# Altium schematic symbol library Interface.SchLib: 40 symbols
Pins are listed as number, name and electrical type; pins without a type are passive.

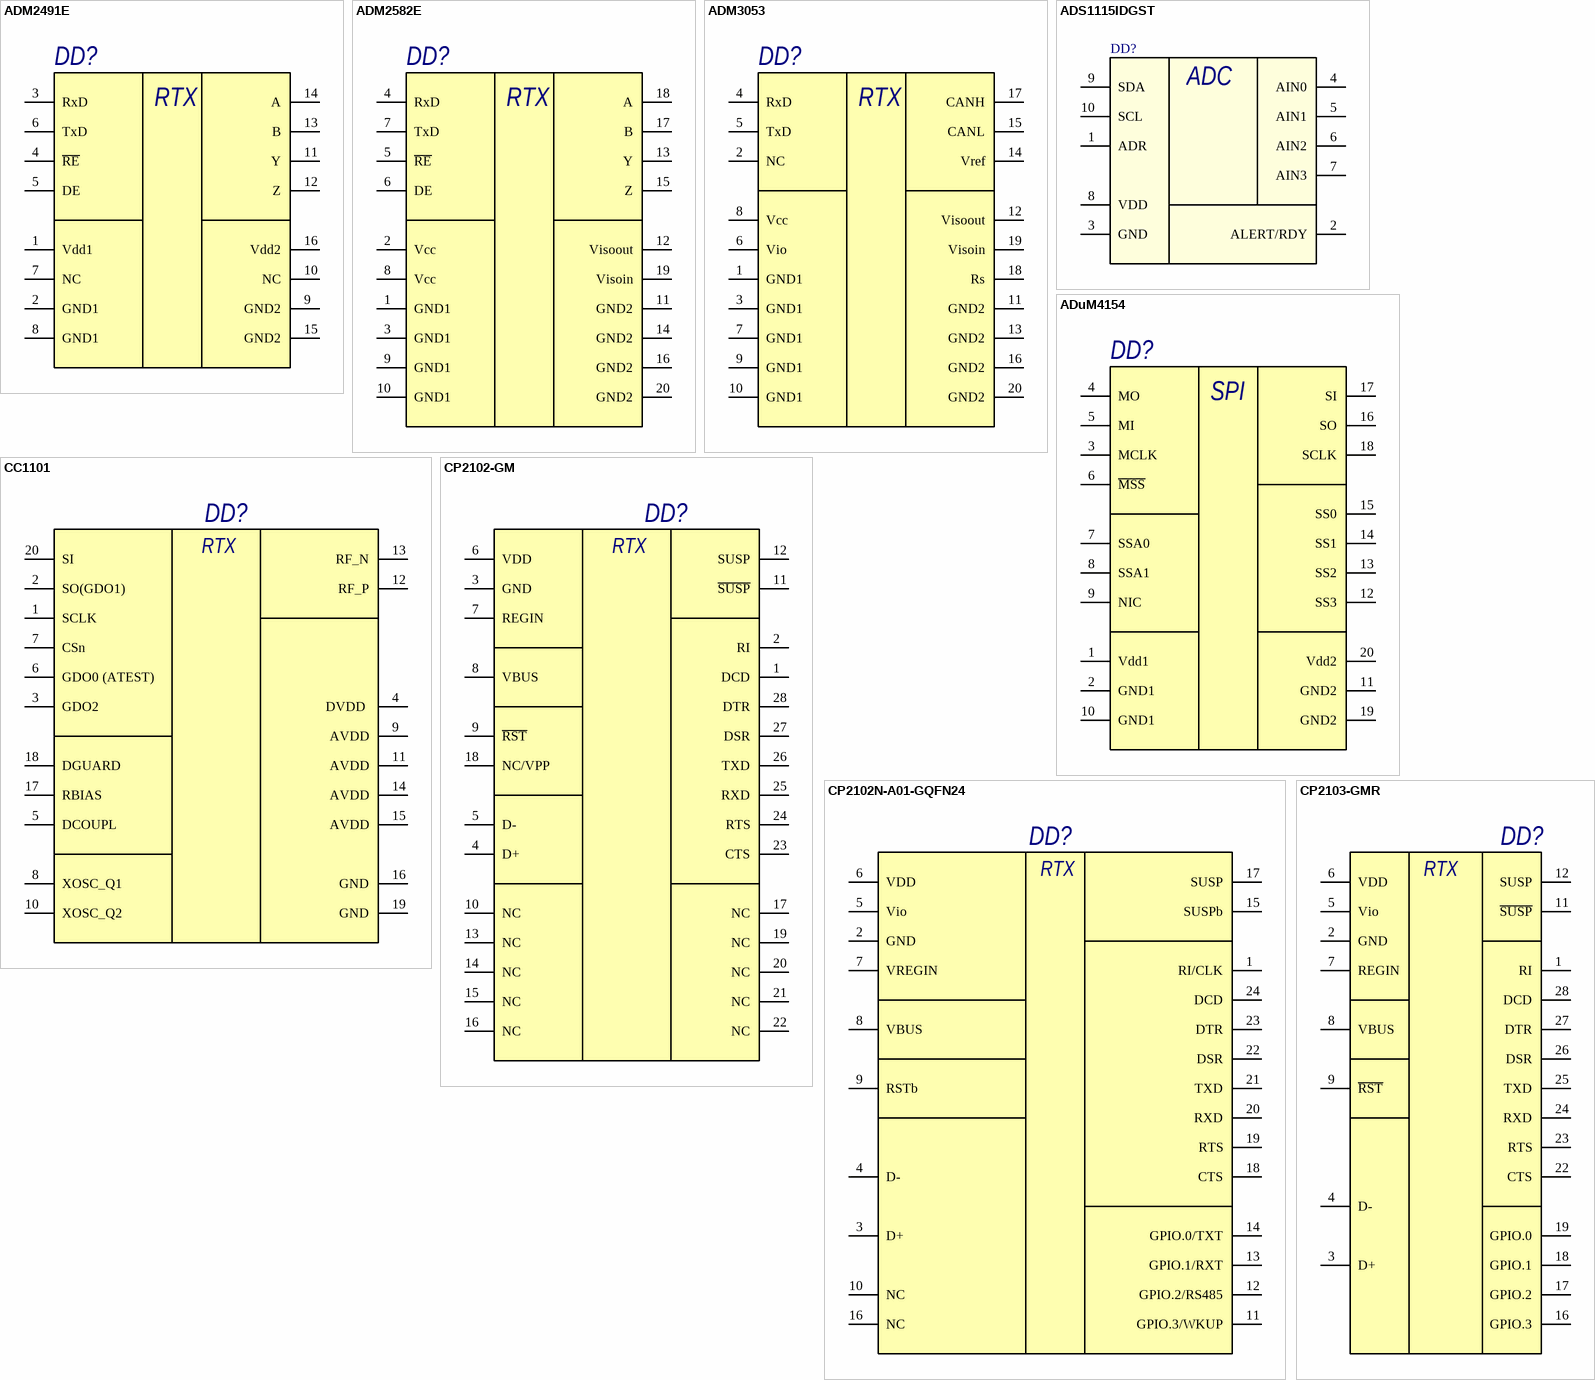
[diagram p0: symbols ADM2491E to CP2103-GMR]

## ADM2491E
designator DD?
High Speed, ESD-Protected, Half-/Full-Duplex  iCoupler Isolated RS-485 Transceiver
pins: 1 Vdd1, 2 GND1, 3 RxD, 4 ~{RE}, 5 DE, 6 TxD, 7 NC, 8 GND1, 9 GND2, 10 NC, 11 Y, 12 Z, 13 B, 14 A, 15 GND2, 16 Vdd2
text: RTX

## ADM2582E
designator DD?
Приемопередатчик RS485 изолированный
pins: 1 GND1, 2 Vcc, 3 GND1, 4 RxD, 5 ~{RE}, 6 DE, 7 TxD, 8 Vcc, 9 GND1, 10 GND1, 11 GND2, 12 Visoout, 13 Y, 14 GND2, 15 Z, 16 GND2, 17 B, 18 A, 19 Visoin, 20 GND2
text: RTX

## ADM3053
designator DD?
Isolated CAN Transceiver with Integrated Isolated DC-to-DC Converter
pins: 1 GND1, 2 NC, 3 GND1, 4 RxD, 5 TxD, 6 Vio, 7 GND1, 8 Vcc, 9 GND1, 10 GND1, 11 GND2, 12 Visoout, 13 GND2, 14 Vref, 15 CANL, 16 GND2, 17 CANH, 18 Rs, 19 Visoin, 20 GND2
text: RTX

## ADS1115IDGST
designator DD?
Ultra-Small, Low-Power, 16-Bit  Analog-to-Digital Converter with Internal Reference
pins: 1 ADR (power), 2 ALERT/RDY (power), 3 GND (power), 4 AIN0 (power), 5 AIN1 (power), 6 AIN2 (power), 7 AIN3 (power), 8 VDD (power), 9 SDA (power), 10 SCL (power)
text: ADC

## ADuM4154
designator DD?
Digital Isolator for SPI
pins: 1 Vdd1, 2 GND1, 3 MCLK, 4 MO, 5 MI, 6 ~{MSS}, 7 SSA0, 8 SSA1, 9 NIC, 10 GND1, 11 GND2, 12 SS3, 13 SS2, 14 SS1, 15 SS0, 16 SO, 17 SI, 18 SCLK, 19 GND2, 20 Vdd2
text: SPI

## CC1101
designator DD?
Low-Power Sub-1 GHz RF Transceiver
pins: 1 SCLK, 2 SO(GDO1), 3 GDO2, 4 DVDD , 5 DCOUPL, 6 GDO0 (ATEST) , 7 CSn, 8 XOSC_Q1 , 9 AVDD, 10 XOSC_Q2, 11 AVDD, 12 RF_P, 13 RF_N, 14 AVDD, 15 AVDD, 16 GND, 17 RBIAS, 18 DGUARD, 19 GND, 20 SI
text: RTX

## CP2102-GM
designator DD?
USB-UART преобразователь
pins: 1 DCD, 2 RI, 3 GND, 4 D+, 5 D-, 6 VDD, 7 REGIN, 8 VBUS, 9 ~{RST}, 10 NC, 11 ~{SUSP}, 12 SUSP, 13 NC, 14 NC, 15 NC, 16 NC, 17 NC, 18 NC/VPP, 19 NC, 20 NC, 21 NC, 22 NC, 23 CTS, 24 RTS, 25 RXD, 26 TXD, 27 DSR, 28 DTR
text: RTX

## CP2102N-A01-GQFN24
designator DD?
USB-UART преобразователь
pins: 1 RI/CLK, 2 GND, 3 D+, 4 D-, 5 Vio, 6 VDD, 7 VREGIN, 8 VBUS, 9 RSTb, 10 NC, 11 GPIO.3/WKUP, 12 GPIO.2/RS485, 13 GPIO.1/RXT, 14 GPIO.0/TXT, 15 SUSPb, 16 NC, 17 SUSP, 18 CTS, 19 RTS, 20 RXD, 21 TXD, 22 DSR, 23 DTR, 24 DCD
text: RTX

## CP2103-GMR
designator DD?
USB-UART преобразователь
pins: 1 RI, 2 GND, 3 D+, 4 D-, 5 Vio, 6 VDD, 7 REGIN, 8 VBUS, 9 ~{RST}, 11 ~{SUSP}, 12 SUSP, 16 GPIO.3, 17 GPIO.2, 18 GPIO.1, 19 GPIO.0, 22 CTS, 23 RTS, 24 RXD, 25 TXD, 26 DSR, 27 DTR, 28 DCD
text: RTX

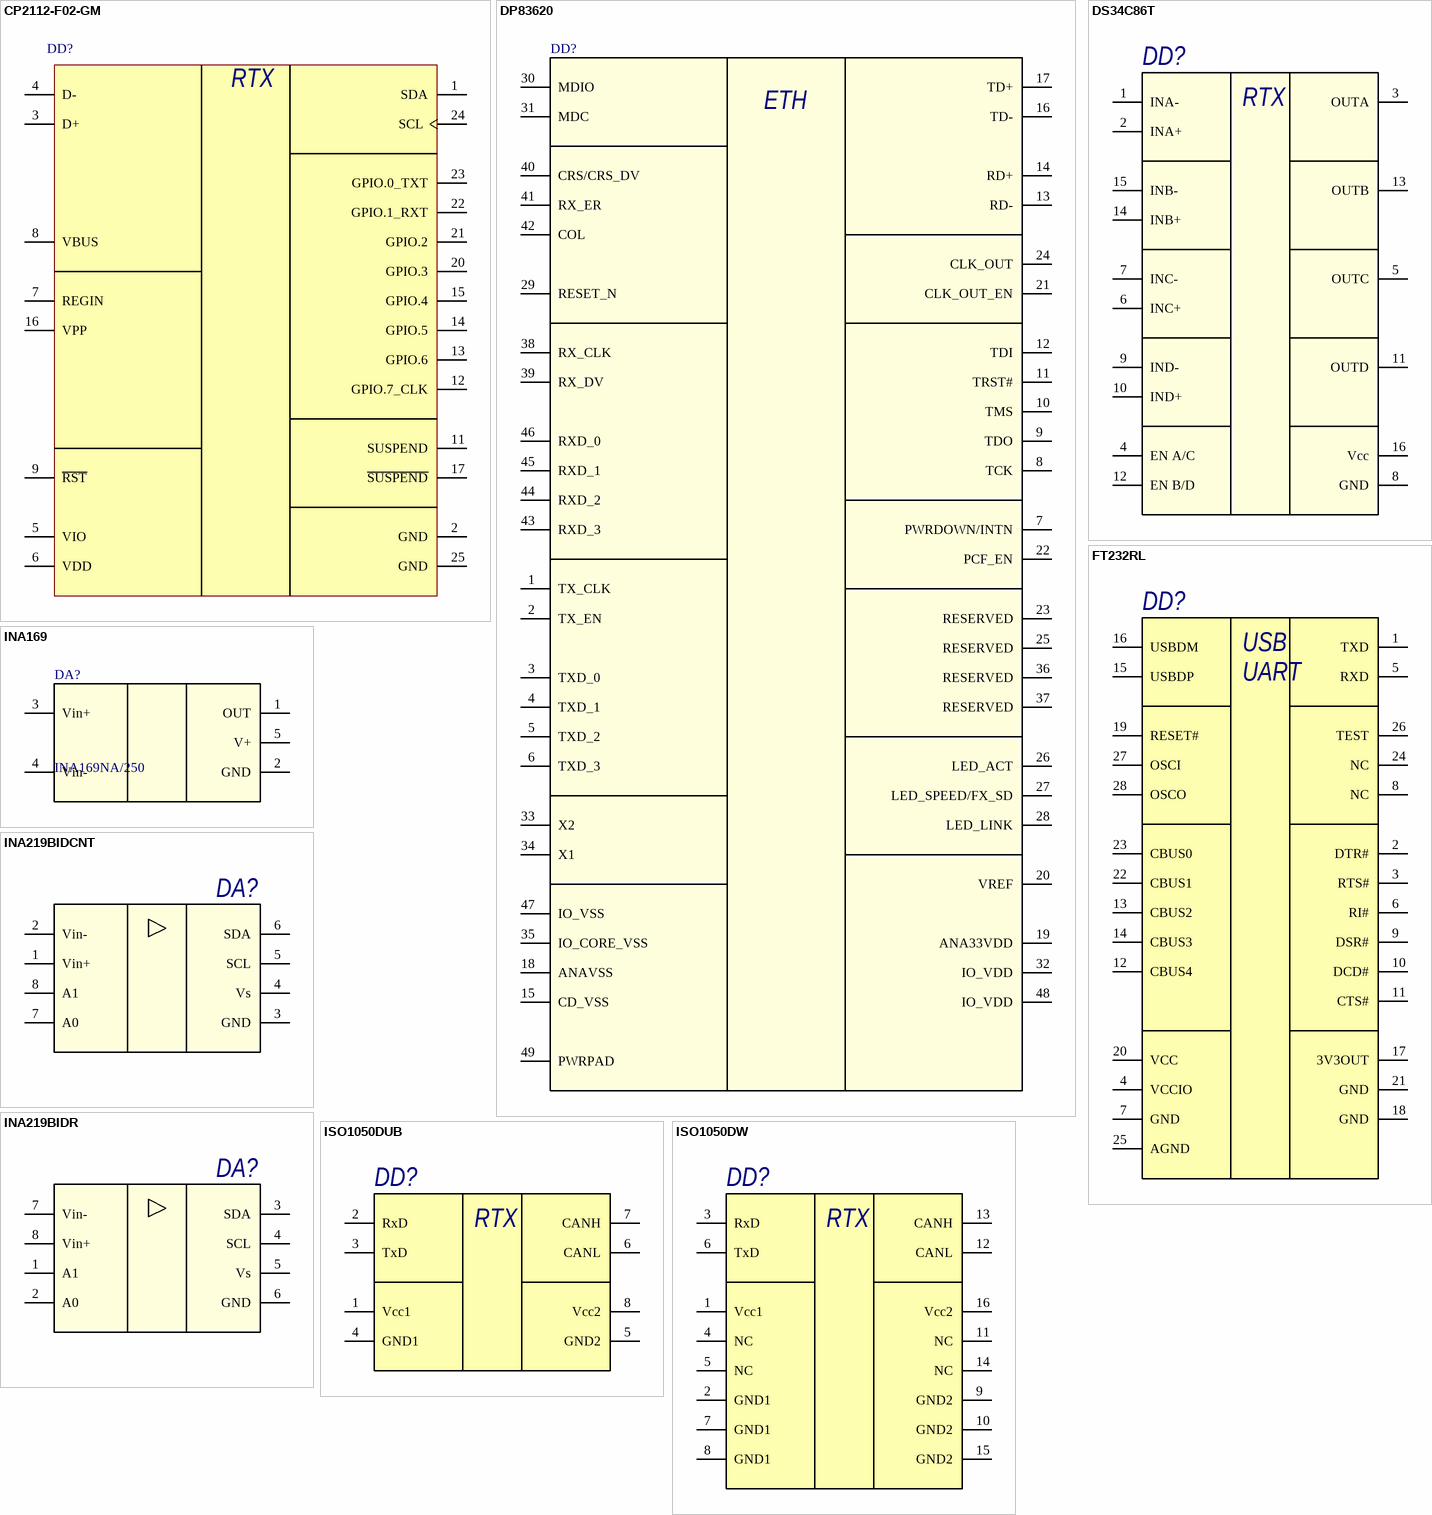
[diagram p1: symbols CP2112-F02-GM to ISO1050DW]

## CP2112-F02-GM
designator DD?
USB-I2C преобразователь
pins: 1 SDA, 2 GND, 3 D+, 4 D-, 5 VIO, 6 VDD, 7 REGIN (power), 8 VBUS, 9 ~{RST}, 11 SUSPEND, 12 GPIO.7_CLK, 13 GPIO.6, 14 GPIO.5, 15 GPIO.4, 16 VPP, 17 ~{SUSPEND}, 20 GPIO.3, 21 GPIO.2, 22 GPIO.1_RXT, 23 GPIO.0_TXT, 24 SCL, 25 GND (power)
text: RTX

## DP83620
designator DD?
Industrial Temperature Single Port 10/100 Mbps Ethernet Physical Layer  Transceiver with Fiber Support (FX)
pins: 1 TX_CLK (power), 2 TX_EN (power), 3 TXD_0 (power), 4 TXD_1 (power), 5 TXD_2  (power), 6 TXD_3 (power), 7 PWRDOWN/INTN (power), 8 TCK (power), 9 TDO (power), 10 TMS (power), 11 TRST# (power), 12 TDI (power), 13 RD- (power), 14 RD+ (power), 15 CD_VSS (power), 16 TD- (power), 17 TD+ (power), 18 ANAVSS (power), 19 ANA33VDD (power), 20 VREF (power), 21 CLK_OUT_EN (power), 22 PCF_EN (power), 23 RESERVED (power), 24 CLK_OUT (power), 25 RESERVED (power), 26 LED_ACT (power), 27 LED_SPEED/FX_SD (power), 28 LED_LINK (power), 29 RESET_N (power), 30 MDIO (power), 31 MDC (power), 32 IO_VDD (power), 33 X2 (power), 34 X1 (power), 35 IO_CORE_VSS (power), 36 RESERVED (power), 37 RESERVED (power), 38 RX_CLK (power), 39 RX_DV (power), 40 CRS/CRS_DV (power), 41 RX_ER (power), 42 COL (power), 43 RXD_3 (power), 44 RXD_2 (power), 45 RXD_1 (power), 46 RXD_0 (power), 47 IO_VSS (power), 48 IO_VDD (power), 49 PWRPAD (power)
text: ETH

## DS34C86T
designator DD?
Quad CMOS Differential Line Receiver
pins: 1 INA-, 2 INA+, 3 OUTA, 4 EN A/C, 5 OUTC, 6 INC+, 7 INC-, 8 GND, 9 IND-, 10 IND+, 11 OUTD, 12 EN B/D, 13 OUTB, 14 INB+, 15 INB-, 16 Vcc
text: RTX

## FT232RL
designator DD?
USB UART IC
pins: 1 TXD, 2 DTR#, 3 RTS#, 4 VCCIO, 5 RXD, 6 RI#, 7 GND, 8 NC, 9 DSR#, 10 DCD#, 11 CTS#, 12 CBUS4, 13 CBUS2, 14 CBUS3, 15 USBDP, 16 USBDM, 17 3V3OUT, 18 GND, 19 RESET#, 20 VCC, 21 GND, 22 CBUS1, 23 CBUS0, 24 NC, 25 AGND, 26 TEST, 27 OSCI, 28 OSCO
text: USB; UART

## INA169
designator DA?, comment INA169NA/250
Измерительный датчик тока; Name: INA169NA/250
footprint SOT23-5
pins: 1 OUT (power), 2 GND (power), 3 Vin+ (power), 4 Vin- (power), 5 V+ (power)

## INA219BIDCNT
designator DA?
Токочувствительный усилитель
pins: 1 Vin+, 2 Vin-, 3 GND, 4 Vs, 5 SCL, 6 SDA, 7 A0, 8 A1

## INA219BIDR
designator DA?
Токочувствительный усилитель
pins: 1 A1, 2 A0, 3 SDA, 4 SCL, 5 Vs, 6 GND, 7 Vin-, 8 Vin+

## ISO1050DUB
designator DD?
Isolated CAN Transceiver
pins: 1 Vcc1, 2 RxD, 3 TxD, 4 GND1, 5 GND2, 6 CANL, 7 CANH, 8 Vcc2
text: RTX

## ISO1050DW
designator DD?
Isolated CAN Transceiver
pins: 1 Vcc1, 2 GND1, 3 RxD, 4 NC, 5 NC, 6 TxD, 7 GND1, 8 GND1, 9 GND2, 10 GND2, 11 NC, 12 CANL, 13 CANH, 14 NC, 15 GND2, 16 Vcc2
text: RTX

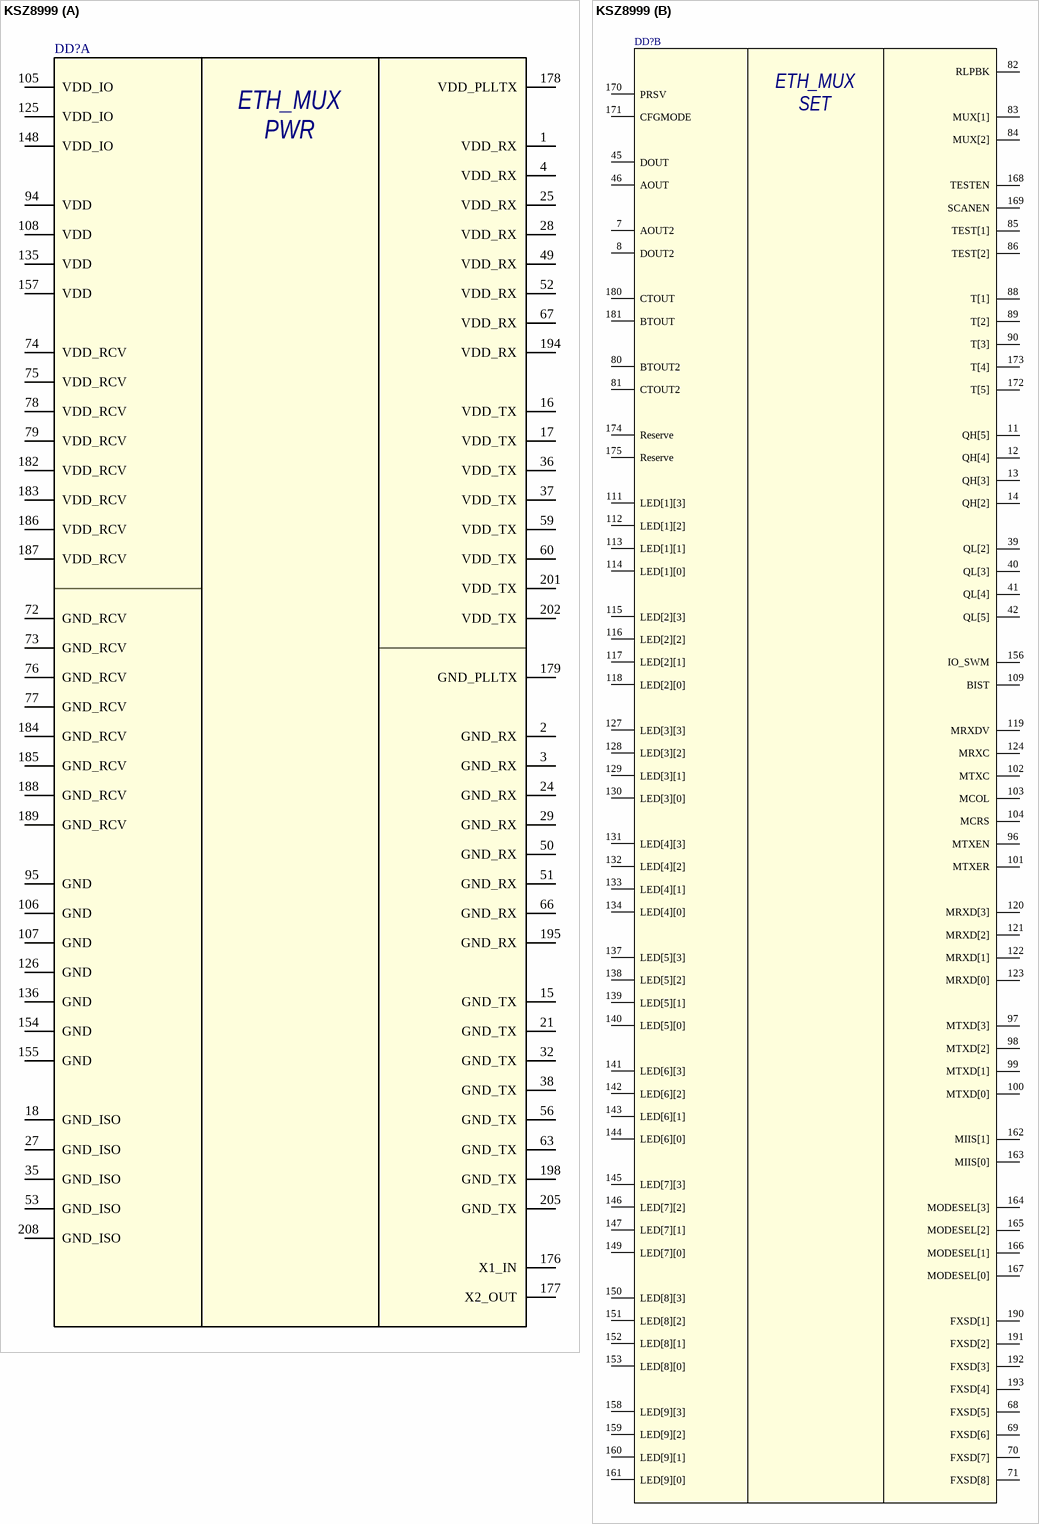
[diagram p2: symbol KSZ8999]

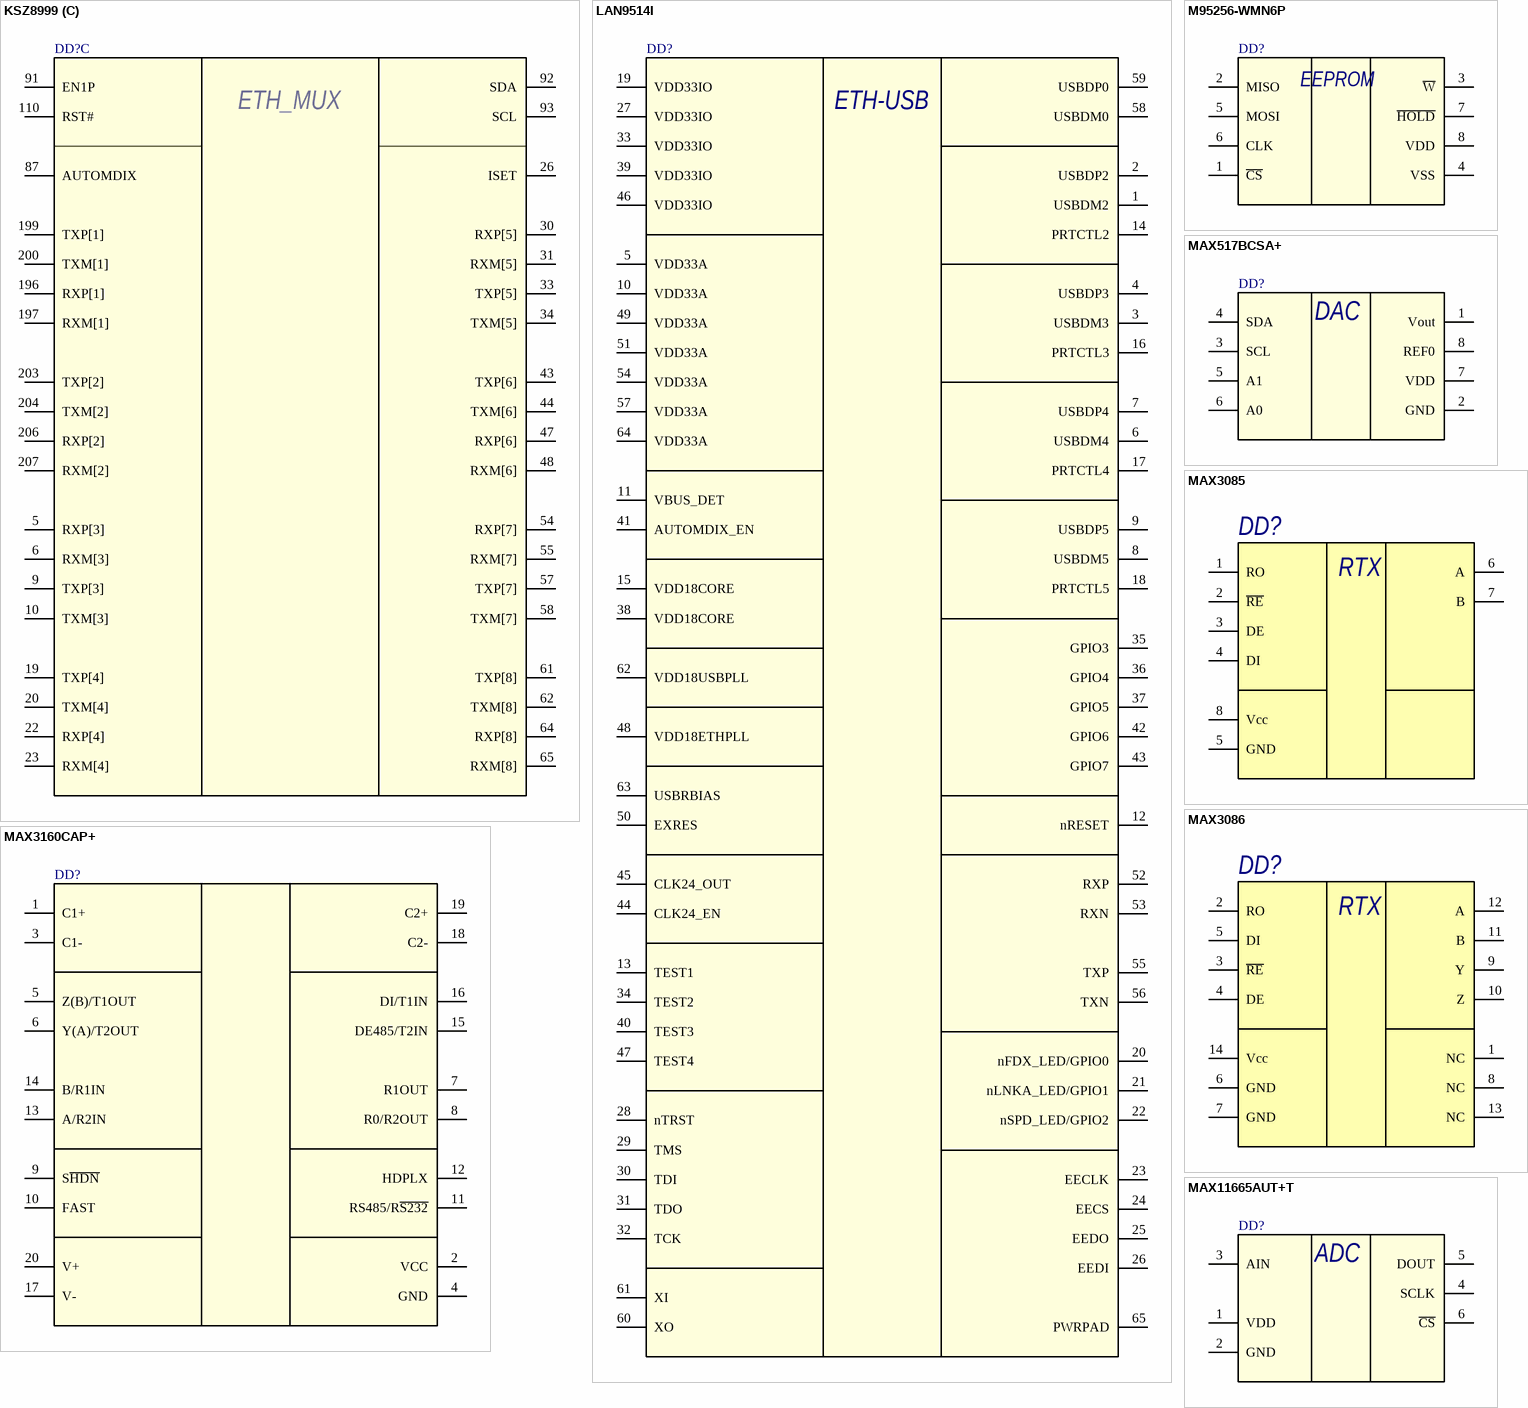
[diagram p3: symbols KSZ8999 to MAX11665AUT+T]

## KSZ8999
designator DD?
9-Port 10/100 Unmanaged Ethernet Switch
part A pins: 1 VDD_RX (power), 2 GND_RX (power), 3 GND_RX (power), 4 VDD_RX (power), 15 GND_TX (power), 16 VDD_TX (power), 17 VDD_TX (power), 18 GND_ISO (power), 21 GND_TX (power), 24 GND_RX (power), 25 VDD_RX (power), 27 GND_ISO (power), 28 VDD_RX (power), 29 GND_RX (power), 32 GND_TX (power), 35 GND_ISO (power), 36 VDD_TX (power), 37 VDD_TX (power), 38 GND_TX (power), 49 VDD_RX (power), 50 GND_RX (power), 51 GND_RX (power), 52 VDD_RX (power), 53 GND_ISO (power), 56 GND_TX (power), 59 VDD_TX (power), 60 VDD_TX (power), 63 GND_TX (power), 66 GND_RX (power), 67 VDD_RX (power), 72 GND_RCV (power), 73 GND_RCV (power), 74 VDD_RCV (power), 75 VDD_RCV (power), 76 GND_RCV (power), 77 GND_RCV (power), 78 VDD_RCV (power), 79 VDD_RCV (power), 94 VDD (power), 95 GND (power), 105 VDD_IO (power), 106 GND (power), 107 GND (power), 108 VDD (power), 125 VDD_IO (power), 126 GND (power), 135 VDD (power), 136 GND (power), 148 VDD_IO (power), 154 GND (power), 155 GND (power), 157 VDD (power), 176 X1_IN (power), 177 X2_OUT (power), 178 VDD_PLLTX (power), 179 GND_PLLTX (power), 182 VDD_RCV (power), 183 VDD_RCV (power), 184 GND_RCV (power), 185 GND_RCV (power), 186 VDD_RCV (power), 187 VDD_RCV (power), 188 GND_RCV (power), 189 GND_RCV (power), 194 VDD_RX (power), 195 GND_RX (power), 198 GND_TX (power), 201 VDD_TX (power), 202 VDD_TX (power), 205 GND_TX (power), 208 GND_ISO (power)
part B pins: 7 AOUT2 (power), 8 DOUT2 (power), 11 QH[5] (power), 12 QH[4] (power), 13 QH[3] (power), 14 QH[2] (power), 39 QL[2] (power), 40 QL[3] (power), 41 QL[4] (power), 42 QL[5] (power), 45 DOUT (power), 46 AOUT (power), 68 FXSD[5] (power), 69 FXSD[6] (power), 70 FXSD[7] (power), 71 FXSD[8] (power), 80 BTOUT2 (power), 81 CTOUT2 (power), 82 RLPBK (power), 83 MUX[1] (power), 84 MUX[2] (power), 85 TEST[1] (power), 86 TEST[2] (power), 88 T[1] (power), 89 T[2] (power), 90 T[3] (power), 96 MTXEN (power), 97 MTXD[3] (power), 98 MTXD[2] (power), 99 MTXD[1] (power), 100 MTXD[0] (power), 101 MTXER (power), 102 MTXC (power), 103 MCOL (power), 104 MCRS (power), 109 BIST (power), 111 LED[1][3] (power), 112 LED[1][2] (power), 113 LED[1][1] (power), 114 LED[1][0] (power), 115 LED[2][3] (power), 116 LED[2][2] (power), 117 LED[2][1] (power), 118 LED[2][0] (power), 119 MRXDV (power), 120 MRXD[3] (power), 121 MRXD[2] (power), 122 MRXD[1] (power), 123 MRXD[0] (power), 124 MRXC (power), 127 LED[3][3] (power), 128 LED[3][2] (power), 129 LED[3][1] (power), 130 LED[3][0] (power), 131 LED[4][3] (power), 132 LED[4][2] (power), 133 LED[4][1] (power), 134 LED[4][0] (power), 137 LED[5][3] (power), 138 LED[5][2] (power), 139 LED[5][1] (power), 140 LED[5][0] (power), 141 LED[6][3] (power), 142 LED[6][2] (power), 143 LED[6][1] (power), 144 LED[6][0] (power), 145 LED[7][3] (power), 146 LED[7][2] (power), 147 LED[7][1] (power), 149 LED[7][0] (power), 150 LED[8][3] (power), 151 LED[8][2] (power), 152 LED[8][1] (power), 153 LED[8][0] (power), 156 IO_SWM (power), 158 LED[9][3] (power), 159 LED[9][2] (power), 160 LED[9][1] (power), 161 LED[9][0] (power), 162 MIIS[1] (power), 163 MIIS[0] (power), 164 MODESEL[3] (power), 165 MODESEL[2] (power), 166 MODESEL[1] (power), 167 MODESEL[0] (power), 168 TESTEN (power), 169 SCANEN (power), 170 PRSV (power), 171 CFGMODE (power), 172 T[5] (power), 173 T[4] (power), 174 Reserve (power), 175 Reserve (power), 180 CTOUT (power), 181 BTOUT (power), 190 FXSD[1] (power), 191 FXSD[2] (power), 192 FXSD[3] (power), 193 FXSD[4] (power)
part C pins: 5 RXP[3] (power), 6 RXM[3] (power), 9 TXP[3] (power), 10 TXM[3] (power), 19 TXP[4] (power), 20 TXM[4] (power), 22 RXP[4] (power), 23 RXM[4] (power), 26 ISET (power), 30 RXP[5] (power), 31 RXM[5] (power), 33 TXP[5] (power), 34 TXM[5] (power), 43 TXP[6] (power), 44 TXM[6] (power), 47 RXP[6] (power), 48 RXM[6] (power), 54 RXP[7] (power), 55 RXM[7] (power), 57 TXP[7] (power), 58 TXM[7] (power), 61 TXP[8] (power), 62 TXM[8] (power), 64 RXP[8] (power), 65 RXM[8] (power), 87 AUTOMDIX (power), 91 EN1P (power), 92 SDA (power), 93 SCL (power), 110 RST# (power), 196 RXP[1] (power), 197 RXM[1] (power), 199 TXP[1] (power), 200 TXM[1] (power), 203 TXP[2] (power), 204 TXM[2] (power), 206 RXP[2] (power), 207 RXM[2] (power)
part A text: ETH_MUX; PWR
part B text: ETH_MUX; SET
part C text: ETH_MUX

## LAN9514I
designator DD?
USB 2.0 Hub and 10/100 Ethernet Controller
pins: 1 USBDM2 (power), 2 USBDP2 (power), 3 USBDM3 (power), 4 USBDP3 (power), 5 VDD33A (power), 6 USBDM4 (power), 7 USBDP4 (power), 8 USBDM5 (power), 9 USBDP5 (power), 10 VDD33A (power), 11 VBUS_DET (power), 12 nRESET (power), 13 TEST1 (power), 14 PRTCTL2 (power), 15 VDD18CORE (power), 16 PRTCTL3 (power), 17 PRTCTL4 (power), 18 PRTCTL5 (power), 19 VDD33IO (power), 20 nFDX_LED/GPIO0 (power), 21 nLNKA_LED/GPIO1 (power), 22 nSPD_LED/GPIO2 (power), 23 EECLK (power), 24 EECS (power), 25 EEDO (power), 26 EEDI (power), 27 VDD33IO (power), 28 nTRST (power), 29 TMS (power), 30 TDI (power), 31 TDO (power), 32 TCK (power), 33 VDD33IO (power), 34 TEST2 (power), 35 GPIO3 (power), 36 GPIO4 (power), 37 GPIO5 (power), 38 VDD18CORE (power), 39 VDD33IO (power), 40 TEST3 (power), 41 AUTOMDIX_EN (power), 42 GPIO6 (power), 43 GPIO7 (power), 44 CLK24_EN (power), 45 CLK24_OUT (power), 46 VDD33IO (power), 47 TEST4 (power), 48 VDD18ETHPLL (power), 49 VDD33A (power), 50 EXRES (power), 51 VDD33A (power), 52 RXP (power), 53 RXN (power), 54 VDD33A (power), 55 TXP (power), 56 TXN (power), 57 VDD33A (power), 58 USBDM0 (power), 59 USBDP0 (power), 60 XO (power), 61 XI (power), 62 VDD18USBPLL (power), 63 USBRBIAS (power), 64 VDD33A (power), 65 PWRPAD (power)
text: ETH-USB

## M95256-WMN6P
designator DD?
SPI bus EEPROM with high-speed clock
pins: 1 ~{CS} (power), 2 MISO (power), 3 ~{W} (power), 4 VSS (power), 5 MOSI (power), 6 CLK (power), 7 ~{HOLD} (power), 8 VDD (power)
text: EEPROM

## MAX517BCSA+
designator DD?
2-Wire Serial 8-Bit DACs with  Rail-to-Rail Outputs
pins: 1 Vout (power), 2 GND (power), 3 SCL (power), 4 SDA (power), 5 A1 (power), 6 A0 (power), 7 VDD (power), 8 REF0 (power)
text: DAC

## MAX3085
designator DD?
RS-485/RS-422 Transceivers
pins: 1 RO, 2 ~{RE}, 3 DE, 4 DI, 5 GND, 6 A, 7 B, 8 Vcc
text: RTX

## MAX3086
designator DD?
Fail-Safe, High-Speed (10Mbps),  Slew-Rate-Limited RS-485/RS-422 Transceivers
pins: 1 NC, 2 RO, 3 ~{RE}, 4 DE, 5 DI, 6 GND, 7 GND, 8 NC, 9 Y, 10 Z, 11 B, 12 A, 13 NC, 14 Vcc
text: RTX

## MAX3160CAP+
designator DD?
Драйвер приемопередатчика RS232/RS422/RS485
pins: 1 C1+ (power), 2 VCC (power), 3 C1- (power), 4 GND (power), 5 Z(B)/T1OUT (power), 6 Y(A)/T2OUT (power), 7 R1OUT (power), 8 R0/R2OUT (power), 9 S~{HDN} (power), 10 FAST (power), 11 RS485/R~{S232} (power), 12 HDPLX (power), 13 A/R2IN (power), 14 B/R1IN (power), 15 DE485/T2IN (power), 16 DI/T1IN (power), 17 V- (power), 18 C2- (power), 19 C2+ (power), 20 V+ (power)

## MAX11665AUT+T
designator DD?
12-Bit A/D Converter with SPI Serial Interface
pins: 1 VDD (power), 2 GND (power), 3 AIN (power), 4 SCLK (power), 5 DOUT (power), 6 ~{CS} (power)
text: ADC

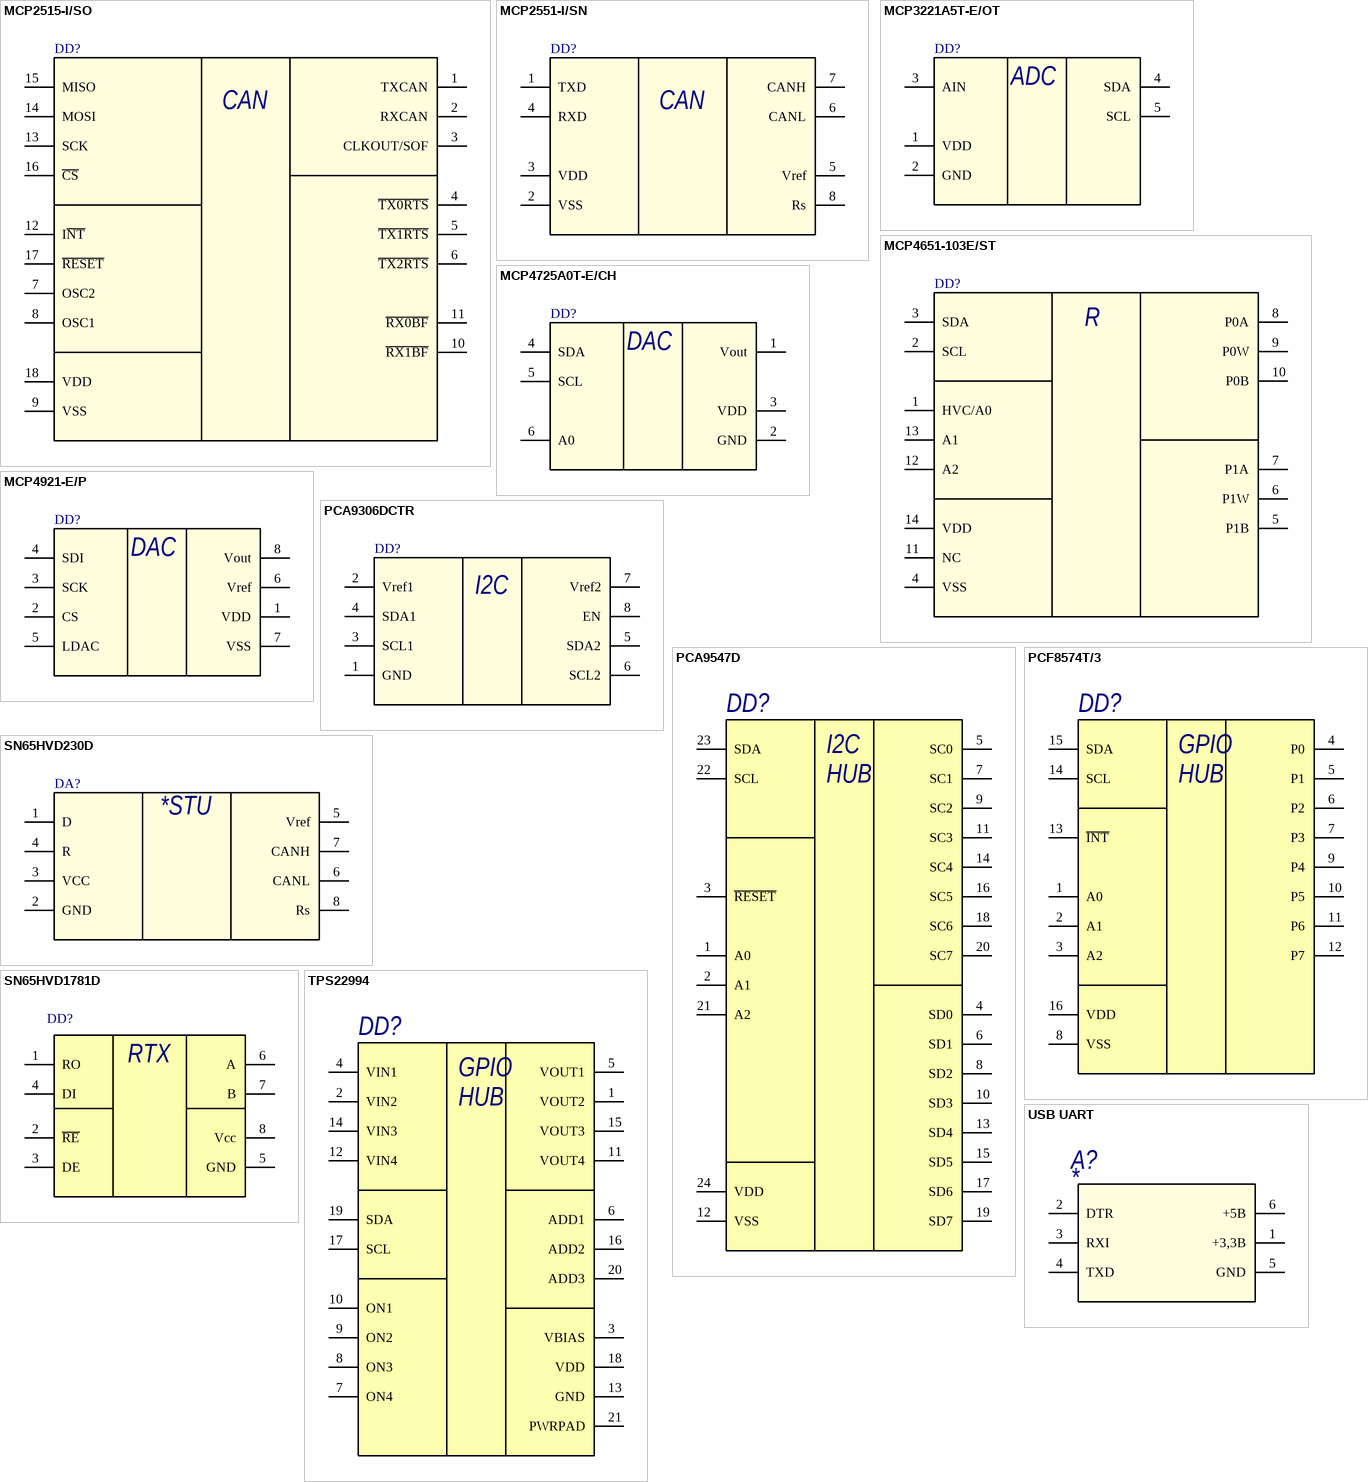
[diagram p4: symbols MCP2515-I/SO to USB UART]

## MCP2515-I/SO
designator DD?
CAN Controller With SPI™ Interface
pins: 1 TXCAN (power), 2 RXCAN (power), 3 CLKOUT/SOF (power), 4 ~{TX0RTS} (power), 5 ~{TX1RTS} (power), 6 ~{TX2RTS} (power), 7 OSC2 (power), 8 OSC1 (power), 9 VSS (power), 10 ~{RX1BF} (power), 11 ~{RX0BF} (power), 12 I~{NT} (power), 13 SCK (power), 14 MOSI (power), 15 MISO (power), 16 ~{CS} (power), 17 ~{RESET} (power), 18 VDD (power)
text: CAN

## MCP2551-I/SN
designator DD?
High-Speed CAN Transceiver
pins: 1 TXD (power), 2 VSS (power), 3 VDD (power), 4 RXD (power), 5 Vref (power), 6 CANL (power), 7 CANH (power), 8 Rs (power)
text: CAN

## MCP3221A5T-E/OT
designator DD?
12-Bit A/D Converter With I2C™ Interface
pins: 1 VDD (power), 2 GND (power), 3 AIN (power), 4 SDA (power), 5 SCL (power)
text: ADC

## MCP4651-103E/ST
designator DD?
Dual I2C Digital Potentiometer
pins: 1 HVC/A0 (power), 2 SCL (power), 3 SDA (power), 4 VSS (power), 5 P1B (power), 6 P1W (power), 7 P1A (power), 8 P0A (power), 9 P0W (power), 10 P0B (power), 11 NC (power), 12 A2 (power), 13 A1 (power), 14 VDD (power)
text: R

## MCP4725A0T-E/CH
designator DD?
12-Bit Digital-to-Analog Converter with EEPROM Memory
pins: 1 Vout (power), 2 GND (power), 3 VDD (power), 4 SDA (power), 5 SCL (power), 6 A0 (power)
text: DAC

## MCP4921-E/P
designator DD?
12-Bit DAC with SPI™ Interface
pins: 1 VDD (power), 2 CS (power), 3 SCK (power), 4 SDI (power), 5 LDAC (power), 6 Vref (power), 7 VSS (power), 8 Vout (power)
text: DAC

## PCA9306DCTR
designator DD?
DUAL BIDIRECTIONAL I2C BUS AND SMBus VOLTAGE-LEVEL TRANSLATOR
pins: 1 GND (power), 2 Vref1 (power), 3 SCL1 (power), 4 SDA1 (power), 5 SDA2 (power), 6 SCL2 (power), 7 Vref2 (power), 8 EN (power)
text: I2C

## PCA9547D
designator DD?
8-channel I2C-bus multiplexer with reset
pins: 1 A0, 2 A1, 3 ~{RESET}, 4 SD0, 5 SC0, 6 SD1, 7 SC1, 8 SD2, 9 SC2, 10 SD3, 11 SC3, 12 VSS, 13 SD4, 14 SC4, 15 SD5, 16 SC5, 17 SD6, 18 SC6, 19 SD7, 20 SC7, 21 A2, 22 SCL, 23 SDA, 24 VDD
text: I2C; HUB

## PCF8574T/3
designator DD?
Remote 8-bit I/O expander for I2C-bus with interrupt
pins: 1 A0, 2 A1, 3 A2, 4 P0, 5 P1, 6 P2, 7 P3, 8 VSS, 9 P4, 10 P5, 11 P6, 12 P7, 13 ~{INT}, 14 SCL, 15 SDA, 16 VDD
text: GPIO; HUB

## SN65HVD230D
designator DA?
3,3V CAN TRANSCEIVERS
pins: 1 D (power), 2 GND (power), 3 VCC (power), 4 R (power), 5 Vref (power), 6 CANL (power), 7 CANH (power), 8 Rs (power)
text: *STU

## SN65HVD1781D
designator DD?
Приемопередатчик RS485
pins: 1 RO, 2 ~{RE}, 3 DE, 4 DI, 5 GND, 6 A, 7 B, 8 Vcc
text: RTX

## TPS22994
designator DD?
Quad Channel Load Switch with GPIO and I  2C Control
pins: 1 VOUT2, 2 VIN2, 3 VBIAS, 4 VIN1, 5 VOUT1, 6 ADD1, 7 ON4, 8 ON3, 9 ON2, 10 ON1, 11 VOUT4, 12 VIN4, 13 GND, 14 VIN3, 15 VOUT3, 16 ADD2, 17 SCL, 18 VDD, 19 SDA, 20 ADD3, 21 PWRPAD
text: GPIO; HUB

## USB UART
designator A?
USB UART module cp2102
pins: 1 +3,3B (power), 2 DTR (power), 3 RXI (power), 4 TXD (power), 5 GND (power), 6 +5B (power)

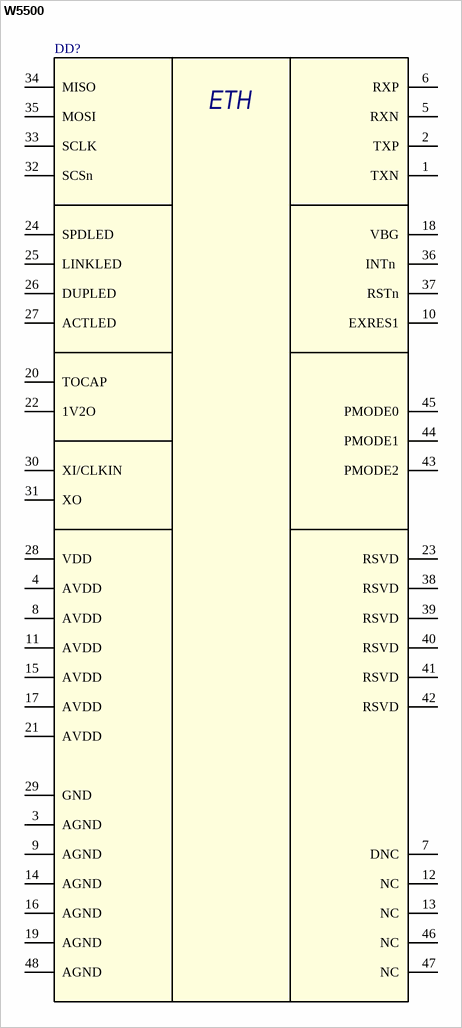
[diagram p5: symbol W5500]

## W5500
designator DD?
Ethernet - SPI
pins: 1 TXN (power), 2 TXP (power), 3 AGND (power), 4 AVDD (power), 5 RXN (power), 6 RXP (power), 7 DNC (power), 8 AVDD (power), 9 AGND (power), 10 EXRES1 (power), 11 AVDD (power), 12 NC (power), 13 NC (power), 14 AGND (power), 15 AVDD (power), 16 AGND (power), 17 AVDD (power), 18 VBG (power), 19 AGND (power), 20 TOCAP (power), 21 AVDD (power), 22 1V2O (power), 23 RSVD (power), 24 SPDLED (power), 25 LINKLED (power), 26 DUPLED (power), 27 ACTLED (power), 28 VDD (power), 29 GND (power), 30 XI/CLKIN (power), 31 XO (power), 32 SCSn (power), 33 SCLK (power), 34 MISO (power), 35 MOSI (power), 36 INTn  (power), 37 RSTn (power), 38 RSVD (power), 39 RSVD (power), 40 RSVD (power), 41 RSVD (power), 42 RSVD (power), 43 PMODE2 (power), 44 PMODE1 (power), 45 PMODE0 (power), 46 NC (power), 47 NC (power), 48 AGND (power)
text: ETH